# Altium footprint library PLS-3.PcbLib: 1 footprints
Each footprint in its own frame and in the unit in brackets; x right, y up, seen from the top. Pads: shape width x height; smd on the part's side, far side on the other; paste and mask are expansions set on the pad; w line width, h text height; cw(c..) or ccw(c..) is an arc to the next point about the centre after c.
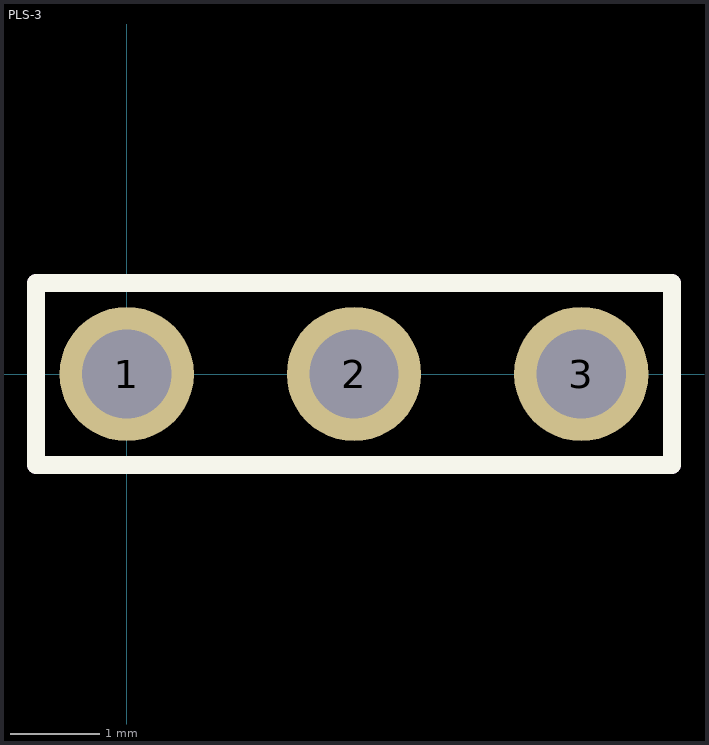
[diagram p0: the footprint, top view; thin cyan lines are the x and y axes]

## PLS-3 [mm]
pads (3):
  round 1.5 hole 1: 1(0,0) 2(2.54,0) 3(5.08,0)
Top Overlay:
  lines w0.2: -1.016,-1.016 6.096,-1.016 6.096,1.016 -1.016,1.016 -1.016,-1.016
TopAssy:
  lines w0.2: -1.016,-1.016 -1.016,1.016 6.096,1.016 6.096,-1.016 -1.016,-1.016
3D body "User Library-PLS-3.step": height 8.54, standoff -3, extent -1.27,-1.27 6.35,1.27